# Altium footprint library BLDC.PcbLib: 51 footprints (part 2 of 4)
Each footprint in its own frame and in the unit in brackets; x right, y up, seen from the top. Pads: shape width x height; smd on the part's side, far side on the other; paste and mask are expansions set on the pad; w line width, h text height; cw(c..) or ccw(c..) is an arc to the next point about the centre after c.
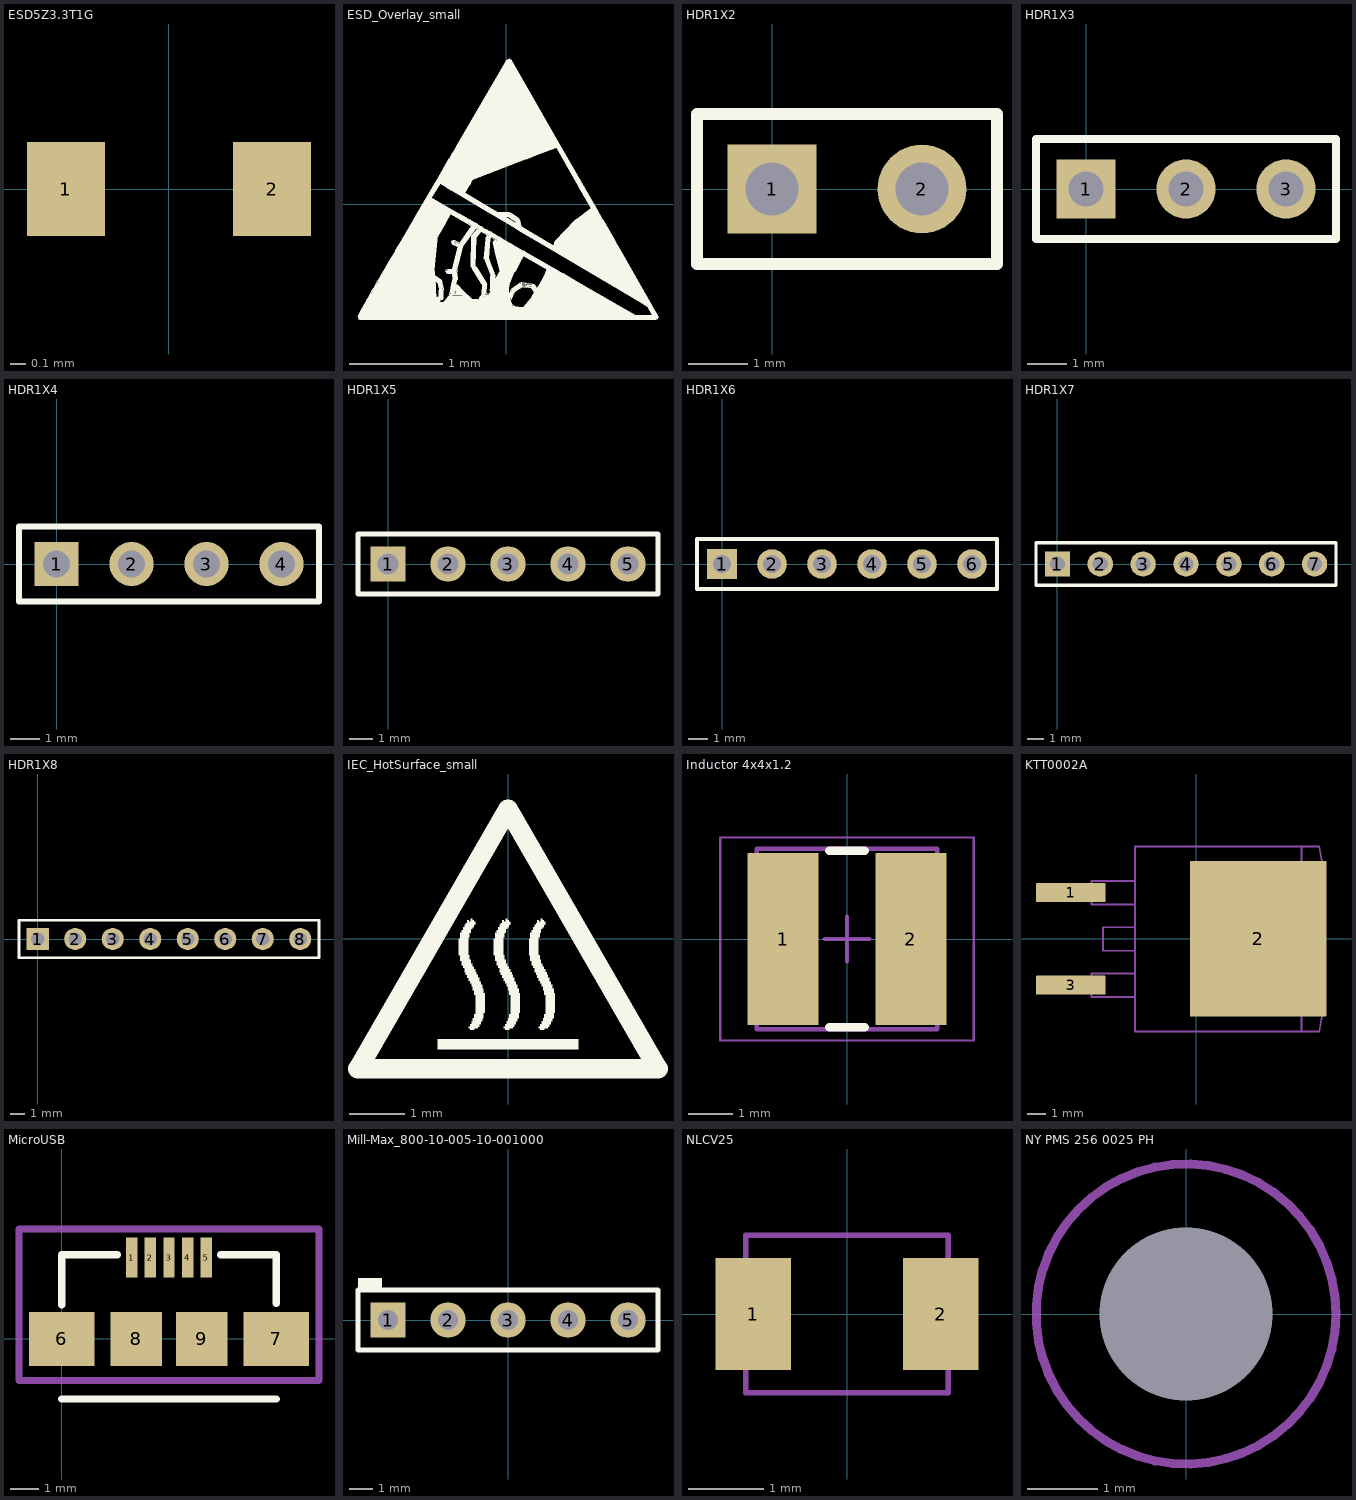
[diagram p1: the footprints below, top view; thin cyan lines are the x and y axes]

## ESD5Z3.3T1G [mm]
pads (2):
  rect 0.5x0.6 smd mask+0.05: 1(-0.66,0) 2(0.66,0)
3D body: height 0.7, standoff 0, extent -0.8,-0.4 0.8,0.398

## ESD_Overlay_small [mm]
height 1.45
Top Overlay:
  drawing of 901 lines, arcs and shapes, not listed

## HDR1X2 [mm] "Connector; Header; 2 Position"
pads (2):
  rect 1.5x1.5 hole 0.9: 1(0,0)
  round 1.5 hole 0.9: 2(2.54,0)
Top Overlay:
  lines w0.2: -1.27,-1.27 3.81,-1.27 3.81,1.27 -1.27,1.27 -1.27,-1.27
3D body: height 9.5, standoff -3.2, extent -1.27,-1.27 3.81,1.27

## HDR1X3 [mm] "Connector; Header; 3 Position"
pads (3):
  rect 1.5x1.5 hole 0.9: 1(0,0)
  round 1.5 hole 0.9: 2(2.54,0) 3(5.08,0)
Top Overlay:
  lines w0.2: -1.27,-1.27 6.35,-1.27 6.35,1.27 -1.27,1.27 -1.27,-1.27
3D body: height 9.5, standoff -3.2, extent -1.27,-1.27 6.35,1.27

## HDR1X4 [mm] "Connector; Header; 4 Position"
pads (4):
  rect 1.5x1.5 hole 0.9: 1(0,0)
  round 1.5 hole 0.9: 2(2.54,0) 3(5.08,0) 4(7.62,0)
Top Overlay:
  lines w0.2: -1.27,-1.27 8.89,-1.27 8.89,1.27 -1.27,1.27 -1.27,-1.27
3D body: height 9.5, standoff -3.2, extent -1.27,-1.27 8.89,1.27

## HDR1X5 [mm] "Connector; Header; 5 Position"
pads (5):
  rect 1.5x1.5 hole 0.9: 1(0,0)
  round 1.5 hole 0.9: 2(2.54,0) 3(5.08,0) 4(7.62,0) 5(10.16,0)
Top Overlay:
  lines w0.2: -1.27,-1.27 11.43,-1.27 11.43,1.27 -1.27,1.27 -1.27,-1.27
3D body: height 9.5, standoff -3.2, extent -1.27,-1.27 11.43,1.27

## HDR1X6 [mm] "Connector; Header; 6 Position"
pads (6):
  rect 1.5x1.5 hole 0.9: 1(0,0)
  round 1.5 hole 0.9: 2(2.54,0) 3(5.08,0) 4(7.62,0) 5(10.16,0) 6(12.7,0)
Top Overlay:
  lines w0.2: -1.27,-1.27 13.97,-1.27 13.97,1.27 -1.27,1.27 -1.27,-1.27
3D body: height 9.5, standoff -3.2, extent -1.27,-1.27 13.97,1.27

## HDR1X7 [mm] "Connector; Header; 7 Position"
pads (7):
  rect 1.5x1.5 hole 0.9: 1(0,0)
  round 1.5 hole 0.9: 2(2.54,0) 3(5.08,0) 4(7.62,0) 5(10.16,0) 6(12.7,0) 7(15.24,0)
Top Overlay:
  lines w0.2: -1.27,-1.27 -1.27,1.27 16.51,1.27 16.51,-1.27 -1.27,-1.27
3D body: height 9.5, standoff -3.2, extent -1.27,-1.27 16.51,1.27

## HDR1X8 [mm] "Connector; Header; 8 Position"
pads (8):
  rect 1.5x1.5 hole 0.9: 1(0,0)
  round 1.5 hole 0.9: 2(2.54,0) 3(5.08,0) 4(7.62,0) 5(10.16,0) 6(12.7,0) 7(15.24,0) 8(17.78,0)
Top Overlay:
  lines w0.2: -1.27,-1.27 19.05,-1.27 19.05,1.27 -1.27,1.27 -1.27,-1.27
3D body: height 9.5, standoff -3.2, extent -1.27,-1.27 19.05,1.27

## IEC_HotSurface_small [mm]
Top Overlay:
  drawing of 10 lines, arcs and shapes, not listed

## Inductor 4x4x1.2 [mm] "Power inductor, 2-Leads, Body 4x4x1.2mm, IPC Medium Density"
height 1.2
pads (2):
  rect 1.6x3.9 smd: 1(-1.45,0) 2(1.45,0)
Top Overlay:
  lines w0.2: -0.4,-2 0.4,-2 ; -0.4,2 0.4,2
Mechanical 13:
  lines w0.1: -2.05,-2.05 -2.05,2.05 2.05,2.05 2.05,-2.05 -2.05,-2.05
Mechanical 15:
  lines w0.05: -2.875,-2.3 -2.875,2.3 2.875,2.3 2.875,-2.3 -2.875,-2.3
  lines w0.1: -0.5,0 0.5,0 ; 0,-0.5 0,0.5
3D body: height 2.4, standoff 0, extent -2.05,-2 2.05,2

## KTT0002A [mm] "TO-263-2"
height 4.7
pads (3):
  rrect10% 3.82x1.05 smd: 1(-6.9,2.54) 3(-6.9,-2.54)
  rrect1% 7.48x8.55 smd paste-4.2: 2(3.4,0)
Top Paste:
  drawing of 42 lines, arcs and shapes, not listed
Mechanical 5:
  lines w0.1: 5.776,-5.088 5.371,-5.088 -3.195,-5.088 -3.374,-5.088 -3.374,5.072 -3.195,5.072 5.371,5.072 5.776,5.072 ; 5.776,-5.088 5.776,-3.183 ; 5.776,-5.088 6.755,-5.088 7.046,-3.437 7.046,3.421 6.755,5.072 5.776,5.072 ; 5.776,-5.088 5.776,-3.183 ; 5.776,-3.183 5.776,3.167 ; 5.776,3.167 5.776,5.072 ; 5.776,3.167 5.776,5.072 ; -8.025,-2.965 -8.025,-2.13 -6.231,-2.13 -5.99,-2.13 -5.757,-2.13 -5.757,-1.9 -5.42,-1.9 -4.783,-1.9 -3.374,-1.9 -3.374,-3.195 -4.783,-3.195 -5.42,-3.195 -5.757,-3.195 -5.757,-2.965 -5.99,-2.965 -6.231,-2.965 -8.025,-2.965 ; -8.025,2.115 -8.025,2.95 -6.231,2.95 -5.99,2.95 -5.757,2.95 -5.757,3.18 -5.42,3.18 -4.783,3.18 -3.374,3.18 -3.374,1.885 -4.783,1.885 -5.42,1.885 -5.757,1.885 -5.757,2.115 -5.99,2.115 -6.231,2.115 -8.025,2.115 ; -5.124,-0.655 -3.374,-0.655 -3.374,0.64 -5.124,0.64 -5.124,-0.655 ; 3.276,-1.008 ccw(c3.276,-0.008) 3.276,0.992 ccw(c3.276,-0.008) 3.276,-1.008
  text ".Designator" at -0.514,1.8 h1.02
3D body: height 4.67, standoff 0, extent -8.026,-5.08 7.045,5.08

## MicroUSB [mm]
pads (9):
  rect 0.4x1.4 smd: 1(2.45,2.85) 2(3.1,2.85) 3(3.75,2.85) 4(4.4,2.85) 5(5.05,2.85)
  rect 2.3x1.9 smd: 6(0,0) 7(7.5,0)
  rect 1.8x1.9 smd: 8(2.6,0) 9(4.9,0)
Top Overlay:
  lines w0.254: 0,-2.1 7.5,-2.1 ; 0,1.2 0,2.95 1.95,2.95 ; 5.55,2.95 7.5,2.95 7.5,1.25
Mechanical 15:
  lines w0.254: -1.5,-1.45 9,-1.45 9,3.85 -1.5,3.85 -1.5,3.75 -1.5,-1.45
3D body: height 7.16, standoff 4.13, extent -0.289,-2.3 7.789,3.264

## Mill-Max_800-10-005-10-001000 [mm] "Mill-Max"
height 8.128
pads (5):
  rect 1.5x1.5 hole 0.85: 1(-5.08,0)
  round 1.5 hole 0.85: 2(-2.54,0) 3(0,0) 4(2.54,0) 5(5.08,0)
Top Overlay:
  rectangle: -6.35,1.27 -5.334,1.778
  lines w0.203: -6.35,-1.27 -6.35,1.27 6.35,1.27 6.35,-1.27 -6.35,-1.27
Mechanical 5:
  lines w0.102: -6.35,-1.27 6.35,-1.27 6.35,1.27 -6.35,1.27 -6.35,-1.27
  text ".Designator" at -2.032,-0.508 h1.02
3D body: height 3.17, standoff 0, extent -6.349,-1.269 6.349,1.269
3D body: height 0.81, standoff -3, extent -5.382,-0.304 -4.775,0.304
3D body: height 0.81, standoff -3, extent -2.842,-0.304 -2.235,0.304
3D body: height 0.81, standoff -3, extent -0.302,-0.304 0.305,0.304
3D body: height 0.81, standoff -3, extent 2.238,-0.304 2.845,0.304
3D body: height 0.81, standoff -3, extent 4.778,-0.304 5.385,0.304
3D body: height 8.13, standoff 0, extent -5.458,-0.38 -4.699,0.38
3D body: height 8.13, standoff 0, extent -2.918,-0.38 -2.159,0.38
3D body: height 8.13, standoff 0, extent -0.378,-0.38 0.381,0.38
3D body: height 8.13, standoff 0, extent 2.162,-0.38 2.921,0.38
3D body: height 8.13, standoff 0, extent 4.702,-0.38 5.461,0.38

## NLCV25 [mm] "TDK"
height 1.9
pads (2):
  rect 1x1.5 smd: 1(-1.25,0) 2(1.25,0)
Mechanical 5:
  lines w0.07: -1.35,-1.05 -1.35,1.05 1.35,1.05 1.35,-1.05 -1.35,-1.05
  text ".Designator" at -1.2,-0.3 h0.7
3D body: height 1.9, standoff 0, extent -1.349,-1.049 1.349,1.049

## NY PMS 256 0025 PH [mm] "Machine Screw Pan Phillips 2-56"
height 1.45
pads (1):
  round 2 hole 2.45 unplated mask+0.381: ""(0,0)
Mechanical 5:
  circle w0.127: c0,0 r2.121
  text ".Designator" at 0.203,0.152 h0.64
3D body: height 1.45, standoff -6.35, extent -2.121,-2.12 2.121,2.12